# Altium footprint library Microcontroller.PcbLib: 9 footprints
Each footprint in its own frame and in the unit in brackets; x right, y up, seen from the top. Pads: shape width x height; smd on the part's side, far side on the other; paste and mask are expansions set on the pad; w line width, h text height; cw(c..) or ccw(c..) is an arc to the next point about the centre after c.
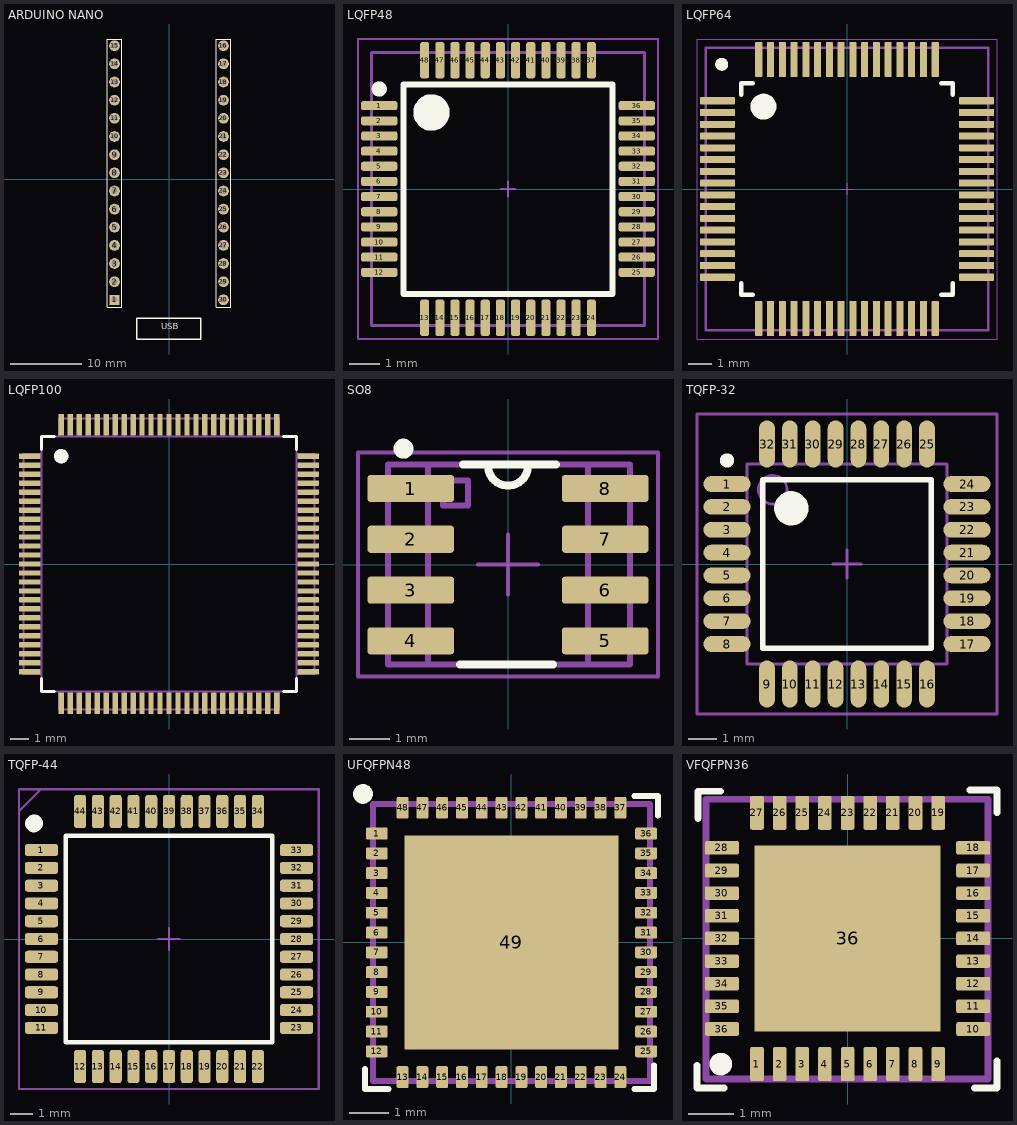
[diagram p0: the footprints below, top view; thin cyan lines are the x and y axes]

## ARDUINO NANO [mm] "Отладочная плата"
pads (30):
  rect 1.4x1.4 hole 0.8: 1(-7.625,-16.875)
  round 1.5 hole 0.8: 2(-7.625,-14.335) 3(-7.625,-11.795) 4(-7.625,-9.255) 5(-7.625,-6.715) 6(-7.625,-4.175) 7(-7.625,-1.635) 8(-7.625,0.905) 9(-7.625,3.445) 10(-7.625,5.985) 11(-7.625,8.525) 12(-7.625,11.065) 13(-7.625,13.605) 14(-7.625,16.145) 15(-7.625,18.685) 16(7.615,18.685) 17(7.615,16.145) 18(7.615,13.605) 19(7.615,11.065) 20(7.615,8.525) 21(7.615,5.985) 22(7.615,3.445) 23(7.615,0.905) 24(7.615,-1.635) 25(7.615,-4.175) 26(7.615,-6.715) 27(7.615,-9.255) 28(7.615,-11.795) 29(7.615,-14.335) 30(7.615,-16.875)
Top Overlay:
  lines w0.1: -8.625,-17.875 -8.625,19.625 -6.625,19.625 -6.625,-17.875 -8.625,-17.875 ; 6.615,-17.875 8.615,-17.875 8.615,19.625 6.615,19.625 6.615,-17.875
  lines w0.2: -4.525,-22.3 -4.525,-19.475 4.425,-19.475 4.425,-22.35 -4.475,-22.35 -4.525,-22.3
  text "USB" at -1.075,-21.35 h1.52
3D body "User Library-arduino_nano.STEP": height 21.37, standoff -3.18, extent -9,-22.5 9,22.5

## LQFP48 [mm] "Thin QFP, 48-Leads, Body 7x7mm, Pitch 0.5mm, IPC Medium Density"
height 1.6
pads (48):
  rrect50% 1.2x0.3 smd mask+0.05: 1(-4.25,2.75) 2(-4.25,2.25) 3(-4.25,1.75) 4(-4.25,1.25) 5(-4.25,0.75) 6(-4.25,0.25) 7(-4.25,-0.25) 8(-4.25,-0.75) 9(-4.25,-1.25) 10(-4.25,-1.75) 11(-4.25,-2.25) 12(-4.25,-2.75) 25(4.25,-2.75) 26(4.25,-2.25) 27(4.25,-1.75) 28(4.25,-1.25) 29(4.25,-0.75) 30(4.25,-0.25) 31(4.25,0.25) 32(4.25,0.75) 33(4.25,1.25) 34(4.25,1.75) 35(4.25,2.25) 36(4.25,2.75)
  rrect50% 0.3x1.2 smd mask+0.05: 13(-2.75,-4.25) 14(-2.25,-4.25) 15(-1.75,-4.25) 16(-1.25,-4.25) 17(-0.75,-4.25) 18(-0.25,-4.25) 19(0.25,-4.25) 20(0.75,-4.25) 21(1.25,-4.25) 22(1.75,-4.25) 23(2.25,-4.25) 24(2.75,-4.25) 37(2.75,4.25) 38(2.25,4.25) 39(1.75,4.25) 40(1.25,4.25) 41(0.75,4.25) 42(0.25,4.25) 43(-0.25,4.25) 44(-0.75,4.25) 45(-1.25,4.25) 46(-1.75,4.25) 47(-2.25,4.25) 48(-2.75,4.25)
Top Overlay:
  circle w0.6: c-2.525,2.525 r0.3
  circle w0.25: c-4.25,3.3 r0.125
  lines w0.2: -3.45,-3.458 3.45,-3.458 3.45,3.45 -3.45,3.45 -3.45,-3.458
Mechanical 9:
  text ".Designator" at -5.775,6.05 h3
Mechanical 10:
  text ".Comment" at -1.975,-6.725 h2
Mechanical 13:
  lines w0.1: -4.5,-4.5 4.5,-4.5 4.5,4.5 -4.5,4.5 -4.5,-4.5
Mechanical 15:
  lines w0.05: -0.25,0 0.25,0 ; 0,-0.25 0,0.25 ; -4.95,-4.95 4.95,-4.95 4.95,4.95 -4.95,4.95 -4.95,-4.95
3D body "vbh48a.stp": height 1.46, standoff -0.04, extent -4.508,-4.508 4.508,4.508

## LQFP64 [mm] "64-Pin Low Profile Quad Pack 0.5 mm Pitch, IPC High Density"
height 1.6
pads (64):
  rrect25% 1.5x0.3 smd mask+0.05: 1(-5.5,3.75) 2(-5.5,3.25) 3(-5.5,2.75) 4(-5.5,2.25) 5(-5.5,1.75) 6(-5.5,1.25) 7(-5.5,0.75) 8(-5.5,0.25) 9(-5.5,-0.25) 10(-5.5,-0.75) 11(-5.5,-1.25) 12(-5.5,-1.75) 13(-5.5,-2.25) 14(-5.5,-2.75) 15(-5.5,-3.25) 16(-5.5,-3.75) 33(5.5,-3.75) 34(5.5,-3.25) 35(5.5,-2.75) 36(5.5,-2.25) 37(5.5,-1.75) 38(5.5,-1.25) 39(5.5,-0.75) 40(5.5,-0.25) 41(5.5,0.25) 42(5.5,0.75) 43(5.5,1.25) 44(5.5,1.75) 45(5.5,2.25) 46(5.5,2.75) 47(5.5,3.25) 48(5.5,3.75)
  rrect25% 0.3x1.5 smd mask+0.05: 17(-3.75,-5.5) 18(-3.25,-5.5) 19(-2.75,-5.5) 20(-2.25,-5.5) 21(-1.75,-5.5) 22(-1.25,-5.5) 23(-0.75,-5.5) 24(-0.25,-5.5) 25(0.25,-5.5) 26(0.75,-5.5) 27(1.25,-5.5) 28(1.75,-5.5) 29(2.25,-5.5) 30(2.75,-5.5) 31(3.25,-5.5) 32(3.75,-5.5) 49(3.75,5.5) 50(3.25,5.5) 51(2.75,5.5) 52(2.25,5.5) 53(1.75,5.5) 54(1.25,5.5) 55(0.75,5.5) 56(0.25,5.5) 57(-0.25,5.5) 58(-0.75,5.5) 59(-1.25,5.5) 60(-1.75,5.5) 61(-2.25,5.5) 62(-2.75,5.5) 63(-3.25,5.5) 64(-3.75,5.5)
Top Overlay:
  circle w0.3: c-5.325,5.3 r0.125
  circle w0.6: c-3.55,3.5 r0.25
  lines w0.2: -4.5,-4 -4.5,-4.5 -4,-4.5 ; -4.5,4 -4.5,4.5 -4,4.5 ; 4,-4.5 4.5,-4.5 4.5,-4 ; 4,4.5 4.5,4.5 4.5,4
Mechanical 13:
  lines w0.1: -6,-6 -6,6 6,6 6,-6 -6,-6
Mechanical 15:
  lines w0.05: -0.25,0 0.25,0 ; 0,-0.25 0,0.25 ; -6.375,-6.375 6.375,-6.375 6.375,6.375 -6.375,6.375 -6.375,-6.375
3D body "User Library-lqpf64.step": height 1.5, standoff 0.02, extent -6,-6 6,6

## LQFP100 [mm]
height 1.6
pads (100):
  rrect25% 1.2x0.3 smd: 1(-7.75,6) 2(-7.75,5.5) 3(-7.75,5) 4(-7.75,4.5) 5(-7.75,4) 6(-7.75,3.5) 7(-7.75,3) 8(-7.75,2.5) 9(-7.75,2) 10(-7.75,1.5) 11(-7.75,1) 12(-7.75,0.5) 13(-7.75,0) 14(-7.75,-0.5) 15(-7.75,-1) 16(-7.75,-1.5) 17(-7.75,-2) 18(-7.75,-2.5) 19(-7.75,-3) 20(-7.75,-3.5) 21(-7.75,-4) 22(-7.75,-4.5) 23(-7.75,-5) 24(-7.75,-5.5) 25(-7.75,-6) 51(7.75,-6) 52(7.75,-5.5) 53(7.75,-5) 54(7.75,-4.5) 55(7.75,-4) 56(7.75,-3.5) 57(7.75,-3) 58(7.75,-2.5) 59(7.75,-2) 60(7.75,-1.5) 61(7.75,-1) 62(7.75,-0.5) 63(7.75,0) 64(7.75,0.5) 65(7.75,1) 66(7.75,1.5) 67(7.75,2) 68(7.75,2.5) 69(7.75,3) 70(7.75,3.5) 71(7.75,4) 72(7.75,4.5) 73(7.75,5) 74(7.75,5.5) 75(7.75,6)
  rrect25% 0.3x1.2 smd: 26(-6,-7.75) 27(-5.5,-7.75) 28(-5,-7.75) 29(-4.5,-7.75) 30(-4,-7.75) 31(-3.5,-7.75) 32(-3,-7.75) 33(-2.5,-7.75) 34(-2,-7.75) 35(-1.5,-7.75) 36(-1,-7.75) 37(-0.5,-7.75) 38(0,-7.75) 39(0.5,-7.75) 40(1,-7.75) 41(1.5,-7.75) 42(2,-7.75) 43(2.5,-7.75) 44(3,-7.75) 45(3.5,-7.75) 46(4,-7.75) 47(4.5,-7.75) 48(5,-7.75) 49(5.5,-7.75) 50(6,-7.75) 76(6,7.75) 77(5.5,7.75) 78(5,7.75) 79(4.5,7.75) 80(4,7.75) 81(3.5,7.75) 82(3,7.75) 83(2.5,7.75) 84(2,7.75) 85(1.5,7.75) 86(1,7.75) 87(0.5,7.75) 88(0,7.75) 89(-0.5,7.75) 90(-1,7.75) 91(-1.5,7.75) 92(-2,7.75) 93(-2.5,7.75) 94(-3,7.75) 95(-3.5,7.75) 96(-4,7.75) 97(-4.5,7.75) 98(-5,7.75) 99(-5.5,7.75) 100(-6,7.75)
Top Overlay:
  circle w0.4: c-6,6 r0.2
  lines w0.15: -7.1,-6.375 -7.1,-7.1 -6.375,-7.1 ; -7.1,6.375 -7.1,7.1 -6.375,7.1 ; 6.375,-7.1 7.1,-7.1 7.1,-6.375 ; 6.375,7.1 7.1,7.1 7.1,6.375
Mechanical 7:
  circle w0.4: c-6,6 r0.2
  lines w0.1: -7.1,-6.135 -8.1,-6.135 -8.1,6.135 -7.1,6.135 ; -6.135,-7.1 -6.135,-8.1 6.135,-8.1 6.135,-7.1 ; -6.135,7.1 -6.135,8.1 6.135,8.1 6.135,7.1 ; 7.1,-6.135 8.1,-6.135 8.1,6.135 7.1,6.135 ; -7.1,-7.1 7.1,-7.1 7.1,7.1 -7.1,7.1 -7.1,-7.1
Mechanical 10:
  text ".Designator" at -1.2,0.155 h0.8
  text ".Comment" at -1.08,-0.495 h0.6
3D body "User Library-LQFP100-3.STEP": height 1.62, standoff -0.01, extent -8.072,-8.072 8.072,8.072

## SO8 [mm]
height 1.75
pads (8):
  rrect25% 2.17x0.68 smd: 1(-2.43,1.905) 2(-2.43,0.635) 3(-2.43,-0.635) 4(-2.43,-1.905) 5(2.43,-1.905) 6(2.43,-0.635) 7(2.43,0.635) 8(2.43,1.905)
Top Overlay:
  circle w0.25: c-2.615,2.9 r0.125
  lines w0.2: -1.2,-2.5 1.125,-2.5 ; -1.125,2.5 1.2,2.5 ; -0.5,2.475 ccw(c0,2.475) 0.5,2.475
Mechanical 7:
  lines w0.15: -2,-2.5 -2,2.5 ; 2,-2.5 2,2.5 ; -3,-2.5 -3,2.5 3.05,2.5 3.05,-2.5 -3,-2.5 ; -1.625,1.475 -1,1.475 -1,2.1 -1.625,2.1 -1.625,1.475
Mechanical 9:
  text ".Designator" at -4.7,3.5 h3
Mechanical 10:
  text ".Comment" at -3.2,-4.2 h2
Mechanical 15:
  lines w0.1: -0.75,0 0.75,0 ; 0,-0.75 0,0.75 ; -3.75,-2.8 3.75,-2.8 3.75,2.8 -3.75,2.8 -3.75,-2.8
3D body "SOIC-8.STEP": height 1.7, standoff 0, extent -3,-2.54 3,2.54

## TQFP-32 [mm] "Thin QFP, 32-Leads, Body 7x7mm, Pitch 0.8mm, IPC Medium Density"
height 1.2
pads (32):
  oval 1.65x0.55 smd: 1(-4.2,2.8) 2(-4.2,2) 3(-4.2,1.2) 4(-4.2,0.4) 5(-4.2,-0.4) 6(-4.2,-1.2) 7(-4.2,-2) 8(-4.2,-2.8) 17(4.2,-2.8) 18(4.2,-2) 19(4.2,-1.2) 20(4.2,-0.4) 21(4.2,0.4) 22(4.2,1.2) 23(4.2,2) 24(4.2,2.8)
  oval 0.55x1.65 smd: 9(-2.8,-4.2) 10(-2,-4.2) 11(-1.2,-4.2) 12(-0.4,-4.2) 13(0.4,-4.2) 14(1.2,-4.2) 15(2,-4.2) 16(2.8,-4.2) 25(2.8,4.2) 26(2,4.2) 27(1.2,4.2) 28(0.4,4.2) 29(-0.4,4.2) 30(-1.2,4.2) 31(-2,4.2) 32(-2.8,4.2)
Top Overlay:
  circle w0.6: c-1.95,1.95 r0.3
  circle w0.25: c-4.2,3.625 r0.125
  lines w0.2: -2.95,-2.95 2.95,-2.95 2.95,2.95 -2.95,2.95 -2.95,-2.95
Mechanical 13:
  circle w0.1: c-2.6,2.6 r0.5
  lines w0.1: -3.5,-3.5 3.5,-3.5 3.5,3.5 -3.5,3.5 -3.5,-3.5
Mechanical 15:
  lines w0.1: -0.5,0 0.5,0 ; 0,-0.5 0,0.5 ; -5.25,-5.25 5.25,-5.25 5.25,5.25 -5.25,5.25 -5.25,-5.25
3D body "User Library-tqfp32.step": height 1.2, standoff 0, extent -4.599,-4.6 4.599,4.599

## TQFP-44 [mm]
pads (44):
  rrect50% 1.5x0.55 smd: 1(-5.738,4) 2(-5.738,3.2) 3(-5.738,2.4) 4(-5.738,1.6) 5(-5.738,0.8) 6(-5.738,0) 7(-5.738,-0.8) 8(-5.738,-1.6) 9(-5.738,-2.4) 10(-5.738,-3.2) 11(-5.738,-4) 23(5.738,-4) 24(5.738,-3.2) 25(5.738,-2.4) 26(5.738,-1.6) 27(5.738,-0.8) 28(5.738,0) 29(5.738,0.8) 30(5.738,1.6) 31(5.738,2.4) 32(5.738,3.2) 33(5.738,4)
  rrect50% 0.55x1.5 smd: 12(-4,-5.738) 13(-3.2,-5.738) 14(-2.4,-5.738) 15(-1.6,-5.738) 16(-0.8,-5.738) 17(0,-5.738) 18(0.8,-5.738) 19(1.6,-5.738) 20(2.4,-5.738) 21(3.2,-5.738) 22(4,-5.738) 34(4,5.738) 35(3.2,5.738) 36(2.4,5.738) 37(1.6,5.738) 38(0.8,5.738) 39(0,5.738) 40(-0.8,5.738) 41(-1.6,5.738) 42(-2.4,5.738) 43(-3.2,5.738) 44(-4,5.738)
Top Overlay:
  circle w0.4: c-6.075,5.2 r0.2
  lines w0.2: -4.65,-4.65 -4.65,4.65 4.65,4.65 4.65,-4.65 -4.65,-4.65
Mechanical 15:
  lines w0.1: -6.75,5.75 -5.75,6.75 ; -0.5,0 0.5,0 ; 0,-0.5 0,0.5 ; -6.75,-6.75 -6.75,6.75 6.75,6.75 6.75,-6.75 -6.75,-6.75
Mechanical 20:
  lines w0.05: -6.725,-6.725 -6.725,6.725 6.725,6.725 6.725,-6.725 -6.725,-6.725
3D body "User Library-TQFP-44-1.STEP": height 1.1, standoff 0, extent -6,-6 6,6

## UFQFPN48 [mm]
pads (49):
  rrect25% 0.55x0.3 smd: 1(-3.4,2.75) 2(-3.4,2.25) 3(-3.4,1.75) 4(-3.4,1.25) 5(-3.4,0.75) 6(-3.4,0.25) 7(-3.4,-0.25) 8(-3.4,-0.75) 9(-3.4,-1.25) 10(-3.4,-1.75) 11(-3.4,-2.25) 12(-3.4,-2.75) 25(3.4,-2.75) 26(3.4,-2.25) 27(3.4,-1.75) 28(3.4,-1.25) 29(3.4,-0.75) 30(3.4,-0.25) 31(3.4,0.25) 32(3.4,0.75) 33(3.4,1.25) 34(3.4,1.75) 35(3.4,2.25) 36(3.4,2.75)
  rrect25% 0.3x0.55 smd: 13(-2.75,-3.4) 14(-2.25,-3.4) 15(-1.75,-3.4) 16(-1.25,-3.4) 17(-0.75,-3.4) 18(-0.25,-3.4) 19(0.25,-3.4) 20(0.75,-3.4) 21(1.25,-3.4) 22(1.75,-3.4) 23(2.25,-3.4) 24(2.75,-3.4) 37(2.75,3.4) 38(2.25,3.4) 39(1.75,3.4) 40(1.25,3.4) 41(0.75,3.4) 42(0.25,3.4) 43(-0.25,3.4) 44(-0.75,3.4) 45(-1.25,3.4) 46(-1.75,3.4) 47(-2.25,3.4) 48(-2.75,3.4)
  rect 5.4x5.4 smd: 49(0,0)
Top Overlay:
  circle w0.25: c-3.75,3.75 r0.125
  lines w0.15: -3.7,-3.2 -3.7,-3.7 -3.1,-3.7 ; 3.1,-3.7 3.6,-3.7 3.6,-3.1 ; 3.1,3.7 3.7,3.7 3.7,3.2
Mechanical 7:
  lines w0.15: -3.5,-3.5 3.5,-3.5 3.5,3.5 -3.5,3.5 -3.5,-3.5
3D body "User Library-UFQFPN48.step": height 0.55, standoff 0, extent -3.5,-3.5 3.5,3.5

## VFQFPN36 [mm]
pads (37):
  rrect25% 0.3x0.75 smd: 1(-2,-2.775) 2(-1.5,-2.775) 3(-1,-2.775) 4(-0.5,-2.775) 5(0,-2.775) 6(0.5,-2.775) 7(1,-2.775) 8(1.5,-2.775) 9(2,-2.775) 19(2,2.775) 20(1.5,2.775) 21(1,2.775) 22(0.5,2.775) 23(0,2.775) 24(-0.5,2.775) 25(-1,2.775) 26(-1.5,2.775) 27(-2,2.775)
  rrect25% 0.75x0.3 smd: 10(2.775,-2) 11(2.775,-1.5) 12(2.775,-1) 13(2.775,-0.5) 14(2.775,0) 15(2.775,0.5) 16(2.775,1) 17(2.775,1.5) 18(2.775,2) 28(-2.775,2) 29(-2.775,1.5) 30(-2.775,1) 31(-2.775,0.5) 32(-2.775,0) 33(-2.775,-0.5) 34(-2.775,-1) 35(-2.775,-1.5) 36(-2.775,-2)
  rect 4.1x4.1 smd: 36(0,0)
Top Overlay:
  circle w0.25: c-2.8,-2.775 r0.125
  lines w0.15: -3.325,-2.8 -3.325,-3.3 -2.725,-3.3 ; -3.3,2.65 -3.3,3.25 -2.8,3.25 ; 2.7,3.275 3.3,3.275 3.3,2.775 ; 2.8,-3.3 3.3,-3.3 3.3,-2.7
Mechanical 7:
  lines w0.15: -3.125,-3.103 3.103,-3.103 3.103,3.075 -3.125,3.075 -3.125,-3.103
3D body "ALSRobot-QFN36 6x6.step": height 0.9, standoff 0.01, extent -3.102,-3.102 3.103,3.103